# EAGLE library part 612X1620621 (library Wire_to_Board_Connectors_rev15d)
WR-BHD 2.54mm Male SMT Box Header High Temperature, 16 Pins=>Code : Con_WTB_BHD_2.54_Male_SMT_612X1620621 <http://katalog.we-online.de/media/thumbs2/eican/thb_Con_WTB_BHD_2.54_Male_SMT_6120xx20621_pf2.jpg> Details see: http://katalog.we-online.de/en/em/612_0xx_206_21 Created 2014-06-05, Karrer Zheng 2014 (C) Würth Elektronik
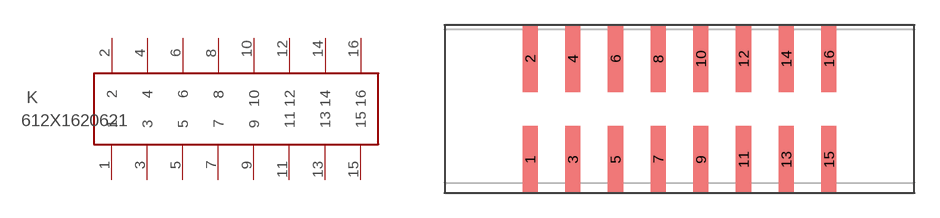
[diagram p104: symbol with the pads of 612X1620621; footprint 612X1620621]

Designator prefix K

## 612X1620621  [612X1620621]
1  1  pas
2  2  pas
3  3  pas
4  4  pas
5  5  pas
6  6  pas
7  7  pas
8  8  pas
9  9  pas
10  10  pas
11  11  pas
12  12  pas
13  13  pas
14  14  pas
15  15  pas
16  16  pas

## Footprint 612X1620621 (pad centres in mm)
WR-BHD 2.54mm Male SMT Box Header High Temperature, 16 pins
smd 0.9 x 4: 1 -7.62,-3; 2 -7.62,3; 3 -5.08,-3; 4 -5.08,3; 5 -2.54,-3; 6 -2.54,3; 7 0,-3; 8 0,3; 9 2.54,-3; 10 2.54,3; 11 5.08,-3; 12 5.08,3; 13 7.62,-3; 14 7.62,3; 15 10.16,-3; 16 10.16,3